# Altium schematic symbol library LF_SFF_AC.SchLib: 1 symbol
Pins are listed as number, name and electrical type; pins without a type are passive.

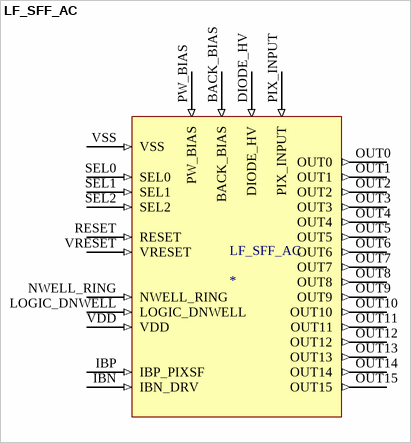
[diagram p0: symbol LF_SFF_AC]

## LF_SFF_AC
designator LF_SFF_AC
LFOUNDRY Small Fill Factor Capacitive Coupled
footprint LF_SFF_AC_min_footprint (Footprint for the LF SFF AC pure chip without further components)
pins: BACK_BIAS (in), DIODE_HV (in), IBN IBN_DRV (in), IBP IBP_PIXSF (in), LOGIC_DNWELL (in), NWELL_RING (in), OUT0 (out), OUT1 (out), OUT2 (out), OUT3 (out), OUT4 (out), OUT5 (out), OUT6 (out), OUT7 (out), OUT8 (out), OUT9 (out), OUT10 (out), OUT11 (out), OUT12 (out), OUT13 (out), OUT14 (out), OUT15 (out), PIX_INPUT (in), PW_BIAS (in), RESET (in), SEL0 (in), SEL1 (in), SEL2 (in), VDD (in), VRESET (in), VSS (in)